# Altium schematic symbol library TI Interface ESD EMI Protection.SchLib: 82 symbols (part 2 of 3)
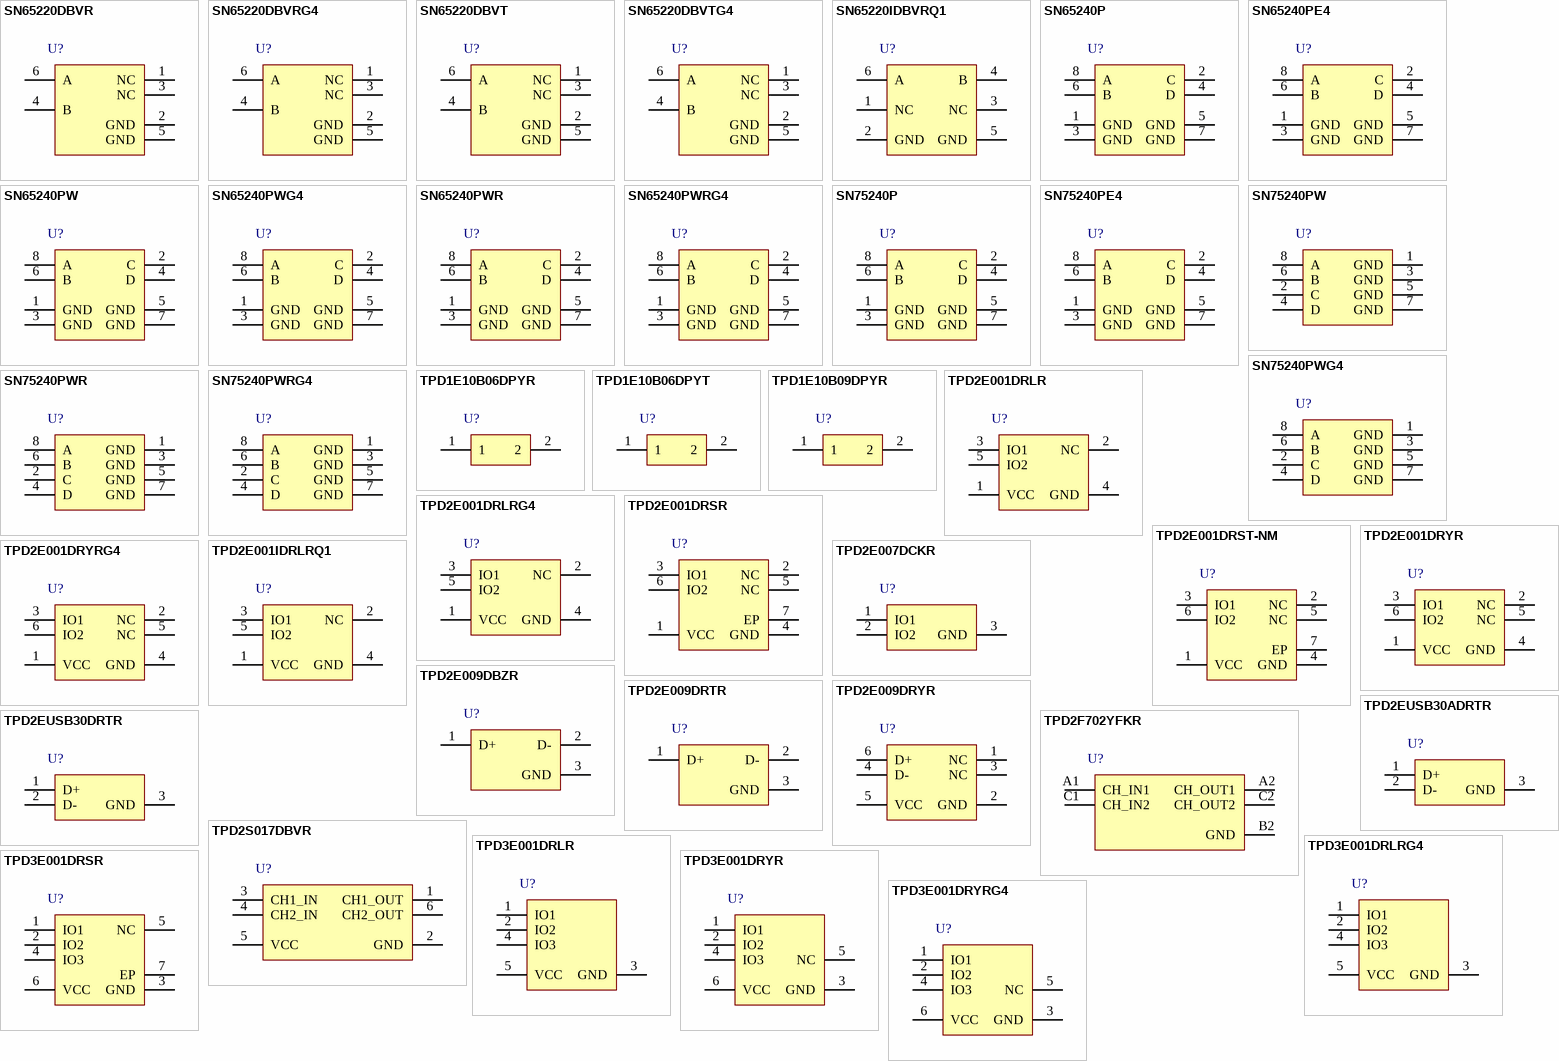
[diagram p3: symbols SN65220DBVR to TPD3E001DRYRG4]

## TPD2F702YFKR
designator U?
EMI Filter for Audio Headphone, 2 Channels, -40 to +85 degC, 5-pin DSBGA (YFK), Green (RoHS & no Sb/Br); Manufacturer: Texas Instruments; PartNumber: TPD2F702YFKR; Breakdown Voltage(Min)(V): 14; Ctotal(Typ)(pF): 5, 030; IEC 61000-4-2 Air-Gap(Typ)(+/- kV): 30; IEC 61000-4-2 Contact(Typ)(+/- kV): 20; SubFamily: EMI Solution; DatasheetVersion: SLLS986A; PackageVersion: revA, Jul-2009; PackageReference: YFK5; PackageDescription: 5-Ball Die-Size Ball Grid Array, 1.31 x 0.91 mm Body, 0.4 mm Pitch, Pb-Free; Supplier 1: Digi-Key; Supplier Part Number 1: 296-25865-2-ND; Supplier 2: Digi-Key; Supplier Part Number 2: 296-25865-1-ND; Supplier 3: Digi-Key; Supplier Part Number 3: 296-25865-6-ND; Supplier 4: Farnell; Supplier Part Number 4: 1815757; Supplier 5: Farnell; Supplier Part Number 5: 1815757RL; Supplier 6: Newark; Supplier Part Number 6: 68R2143; Supplier 7: Mouser; Supplier Part Number 7: 595-TPD2F702YFKR; Eco-Plan: Green (RoHS & no Sb/Br); Mounting Technology: Surface Mount; ComponentLink1Description: Datasheet; ComponentLink1URL: http://www.ti.com/general/docs/lit/getliterature.tsp?genericPartNumber=TPD2F702&fileType=pdf; ComponentLink2Description: URL Link1; ComponentLink2URL: SamplesURL:http://www.ti.com/product/tpd2f702#samples
footprint YFK5 (BGA, 5-Leads, Body 1.31x0.91mm, Pitch 0.4mm)
pins: A1 CH_IN1 "Ch 1 Input, ESD Level 1", A2 CH_OUT1 "Ch 1 Output, ESD Level 4", B2 GND (power) "Ground", C1 CH_IN2 "Ch 2 Input, ESD Level 1", C2 CH_OUT2 "Ch 2 Output, ESD Level 4"

## TPD2S017DBVR
designator U?
Ultra-Low Clamp Voltage ESD Solution with Series-Resistor Isolation, 2 Channels, -40 to 85 degC, 6-pin SOT-23 (DBV), Green (RoHS & no Sb/Br); Manufacturer: Texas Instruments; PartNumber: TPD2S017DBVR; Breakdown Voltage(Min)(V): 11; Differential Capacitance(pF): 0.02; IO Capacitance(Typ)(pF): 1; IO Leakage Current(nA): 10; USB Full Speed: TRUE; DatasheetVersion: SLLS949; PackageVersion: revK, Mar-2006; PackageReference: DBV6; PackageDescription: 6-Pin Plastic Small-Outline Package, 2.9 x 1.6 mm Body, 0.95 mm Pitch, 2.8 mm Lead Span; Supplier 1: Digi-Key; Supplier Part Number 1: 296-25216-2-ND; Supplier 2: Digi-Key; Supplier Part Number 2: 296-25216-1-ND; Supplier 3: Digi-Key; Supplier Part Number 3: 296-25216-6-ND; Supplier 4: Newark; Supplier Part Number 4: 50R8094; Supplier 5: Mouser; Supplier Part Number 5: 595-TPD2S017DBVR; Eco-Plan: Green (RoHS & no Sb/Br); IEC 61000-4-2 Contact(+/- kV): 11; SubFamily: ESD Solution; USB High Speed: TRUE; Mounting Technology: Surface Mount; Code_JEDEC: MO-178-AB*; ComponentLink1Description: Datasheet; ComponentLink1URL: http://www.ti.com/general/docs/lit/getliterature.tsp?genericPartNumber=TPD2S017&fileType=pdf; ComponentLink2Description: URL Link1; ComponentLink2URL: SamplesURL:http://www.ti.com/product/tpd2s017#samples
footprint DBV6_N (SOT23, 6-Leads, Body 2.9x1.6mm, Pitch 0.95mm, Lead Span 2.8mm, IPC Medium Density)
footprint DBV6_L (SOT23, 6-Leads, Body 2.9x1.6mm, Pitch 0.95mm, Lead Span 2.8mm, IPC High Density)
footprint DBV6_M (SOT23, 6-Leads, Body 2.9x1.6mm, Pitch 0.95mm, Lead Span 2.8mm, IPC Low Density)
pins: 1 CH1_OUT "High-speed ESD clamp output", 2 GND (power) "Ground", 3 CH1_IN "High-speed ESD clamp input", 4 CH2_IN "High-speed ESD clamp input", 5 VCC (power) "Optional power", 6 CH2_OUT "High-speed ESD clamp output"

## TPD3E001DRLR
designator U?
Low-Capacitance + / - 15 kV ESD-Protection Array for High-Speed Data Interfaces, 3 Channels, -40 to +85 degC, 5-pin SOT (DRL), Green (RoHS & no Sb/Br); Manufacturer: Texas Instruments; PartNumber: TPD3E001DRLR; Breakdown Voltage(Min)(V): 11; IEC 61000-4-2 Air-Gap(+/- kV): 15; IEC 61000-4-2 Contact(+/- kV): 8; IO Capacitance(Typ)(pF): 1.5; IO Leakage Current(nA): 1; SubFamily: ESD Solution; USB High Speed: TRUE; DatasheetVersion: SLLS683D; PackageVersion: revD, Aug-2007; PackageReference: DRL5; PackageDescription: 5-Pin Plastic Small Outline, Flat Lead 0.5 mm Pitch; Supplier 1: Digi-Key; Supplier Part Number 1: 296-21885-2-ND; Supplier 2: Digi-Key; Supplier Part Number 2: 296-21885-1-ND; Supplier 3: Digi-Key; Supplier Part Number 3: 296-21885-6-ND; Supplier 4: Farnell; Supplier Part Number 4: 1603422; Supplier 5: Farnell; Supplier Part Number 5: 1603422RL; Supplier 6: Newark; Supplier Part Number 6: 41M5842; Supplier 7: Mouser; Supplier Part Number 7: 595-TPD3E001DRLR; Eco-Plan: Green (RoHS & no Sb/Br); Mounting Technology: Surface Mount; ComponentLink1Description: Datasheet; ComponentLink1URL: http://www.ti.com/general/docs/lit/getliterature.tsp?genericPartNumber=TPD3E001&fileType=pdf; ComponentLink2Description: URL Link1; ComponentLink2URL: SamplesURL:http://www.ti.com/product/tpd3e001#samples
footprint DRL5_V (SOTFL, 5-Flat Leads, Body 1.2x1.6x0.6mm, Pitch 0.5mm, TI Recommended)
footprint DRL5_N (SOTFL, 5-Flat Leads, Body 1.2x1.6x0.6mm, Pitch 0.5mm, IPC Medium Density)
footprint DRL5_L (SOTFL, 5-Flat Leads, Body 1.2x1.6x0.6mm, Pitch 0.5mm, IPC High Density)
footprint DRL5_M (SOTFL, 5-Flat Leads, Body 1.2x1.6x0.6mm, Pitch 0.5mm, IPC Low Density)
pins: 1 IO1 "ESD-protected channel", 2 IO2 "ESD-protected channel", 3 GND (power) "Ground", 4 IO3 "ESD-protected channel", 5 VCC (power) "Power-supply input. Bypass VCC to GND with a 0.1-uF ceramic Capacitor."

## TPD3E001DRLRG4
designator U?
Low-Capacitance + / - 15 kV ESD-Protection Array for High-Speed Data Interfaces, 3 Channels, -40 to +85 degC, 5-pin SOT (DRL), Green (RoHS & no Sb/Br); Manufacturer: Texas Instruments; PartNumber: TPD3E001DRLRG4; Breakdown Voltage(Min)(V): 11; IEC 61000-4-2 Air-Gap(+/- kV): 15; IEC 61000-4-2 Contact(+/- kV): 8; IO Capacitance(Typ)(pF): 1.5; IO Leakage Current(nA): 1; SubFamily: ESD Solution; USB High Speed: TRUE; DatasheetVersion: SLLS683D; PackageVersion: revD, Aug-2007; PackageReference: DRL5; PackageDescription: 5-Pin Plastic Small Outline, Flat Lead 0.5 mm Pitch; Supplier 1: Digi-Key; Supplier Part Number 1: TPD3E001DRLRG4-ND; Supplier 2: Newark; Supplier Part Number 2: 46M1086; Supplier 3: Mouser; Supplier Part Number 3: 595-TPD3E001DRLRG4; Eco-Plan: Green (RoHS & no Sb/Br); Mounting Technology: Surface Mount; ComponentLink1Description: Datasheet; ComponentLink1URL: http://www.ti.com/general/docs/lit/getliterature.tsp?genericPartNumber=TPD3E001&fileType=pdf; ComponentLink2Description: URL Link1; ComponentLink2URL: SamplesURL:http://www.ti.com/product/tpd3e001#samples
footprint DRL5_V (SOTFL, 5-Flat Leads, Body 1.2x1.6x0.6mm, Pitch 0.5mm, TI Recommended)
footprint DRL5_N (SOTFL, 5-Flat Leads, Body 1.2x1.6x0.6mm, Pitch 0.5mm, IPC Medium Density)
footprint DRL5_L (SOTFL, 5-Flat Leads, Body 1.2x1.6x0.6mm, Pitch 0.5mm, IPC High Density)
footprint DRL5_M (SOTFL, 5-Flat Leads, Body 1.2x1.6x0.6mm, Pitch 0.5mm, IPC Low Density)
pins: 1 IO1 "ESD-protected channel", 2 IO2 "ESD-protected channel", 3 GND (power) "Ground", 4 IO3 "ESD-protected channel", 5 VCC (power) "Power-supply input. Bypass VCC to GND with a 0.1-uF ceramic Capacitor."

## TPD3E001DRSR
designator U?
Low-Capacitance + / - 15 kV ESD-Protection Array for High-Speed Data Interfaces, 3 Channels, -40 to +85 degC, 6-pin SON (DRS), Green (RoHS & no Sb/Br); Manufacturer: Texas Instruments; PartNumber: TPD3E001DRSR; Breakdown Voltage(Min)(V): 11; IEC 61000-4-2 Air-Gap(+/- kV): 15; IEC 61000-4-2 Contact(+/- kV): 8; IO Capacitance(Typ)(pF): 1.5; IO Leakage Current(nA): 1; SubFamily: ESD Solution; USB High Speed: TRUE; DatasheetVersion: SLLS683D; PackageVersion: revF, Jul-2011; PackageReference: DRS6-1900X1200TP; PackageDescription: 6-Pin Plastic Small Outline No-Lead, 3 x 3 x 0.8 mm Body, 0.95 mm Pitch; Supplier 1: Digi-Key; Supplier Part Number 1: 296-22851-2-ND; Supplier 2: Digi-Key; Supplier Part Number 2: 296-22851-1-ND; Supplier 3: Digi-Key; Supplier Part Number 3: 296-22851-6-ND; Supplier 4: Newark; Supplier Part Number 4: 54M7404; Supplier 5: Mouser; Supplier Part Number 5: 595-TPD3E001DRSR; Eco-Plan: Green (RoHS & no Sb/Br); Mounting Technology: Surface Mount; ComponentLink1Description: Datasheet; ComponentLink1URL: http://www.ti.com/general/docs/lit/getliterature.tsp?genericPartNumber=TPD3E001&fileType=pdf; ComponentLink2Description: URL Link1; ComponentLink2URL: SamplesURL:http://www.ti.com/product/tpd3e001#samples
footprint DRS6-1900X1200TP (SON, 6-Leads, Body 3x3mm, Pitch 0.95mm, Thermal Pad 2x1.3mm, TI Recommended)
pins: 1 IO1 "ESD-protected channel", 2 IO2 "ESD-protected channel", 3 GND (power) "Ground", 4 IO3 "ESD-protected channel", 5 NC "No connection. Not internally connected.", 6 VCC (power) "Power-supply input. Bypass VCC to GND with a 0.1-uF ceramic capacitor.", 7 EP (power) "Exposed pad. Connect to GND."

## TPD3E001DRYR
designator U?
Low-Capacitance + / - 15 kV ESD-Protection Array for High-Speed Data Interfaces, 3 Channels, -40 to +85 degC, 6-pin SON (DRY), Green (RoHS & no Sb/Br); Manufacturer: Texas Instruments; PartNumber: TPD3E001DRYR; Breakdown Voltage(Min)(V): 11; IEC 61000-4-2 Air-Gap(+/- kV): 15; IEC 61000-4-2 Contact(+/- kV): 8; IO Capacitance(Typ)(pF): 1.5; IO Leakage Current(nA): 1; SubFamily: ESD Solution; USB High Speed: TRUE; DatasheetVersion: SLLS683D; PackageVersion: revF, Dec-2011; PackageReference: DRY6; PackageDescription: 6-Pin Plastic Small Outline No-Lead, 1 x 1.45 x 0.6 mm Body, 0.5 mm Pitch; Supplier 1: Digi-Key; Supplier Part Number 1: 296-21886-2-ND; Supplier 2: Digi-Key; Supplier Part Number 2: 296-21886-1-ND; Supplier 3: Digi-Key; Supplier Part Number 3: 296-21886-6-ND; Supplier 4: Newark; Supplier Part Number 4: 41M5843; Supplier 5: Mouser; Supplier Part Number 5: 595-TPD3E001DRYR; Eco-Plan: Green (RoHS & no Sb/Br); Mounting Technology: Surface Mount; ComponentLink1Description: Datasheet; ComponentLink1URL: http://www.ti.com/general/docs/lit/getliterature.tsp?genericPartNumber=TPD3E001&fileType=pdf; ComponentLink2Description: URL Link1; ComponentLink2URL: SamplesURL:http://www.ti.com/product/tpd3e001#samples
footprint DRY6 (PSON, 6-Leads, Body 1x1.45mm, Pitch 0.5mm, TI Recommended)
pins: 1 IO1 "ESD-protected channel", 2 IO2 "ESD-protected channel", 3 GND (power) "Ground", 4 IO3 "ESD-protected channel", 5 NC "No connection. Not internally connected.", 6 VCC (power) "Power-supply input. Bypass VCC to GND with a 0.1-uF ceramic capacitor."

## TPD3E001DRYRG4
designator U?
Low-Capacitance + / - 15 kV ESD-Protection Array for High-Speed Data Interfaces, 3 Channels, -40 to +85 degC, 6-pin SON (DRY), Green (RoHS & no Sb/Br); Manufacturer: Texas Instruments; PartNumber: TPD3E001DRYRG4; Breakdown Voltage(Min)(V): 11; IEC 61000-4-2 Air-Gap(+/- kV): 15; IEC 61000-4-2 Contact(+/- kV): 8; IO Capacitance(Typ)(pF): 1.5; IO Leakage Current(nA): 1; SubFamily: ESD Solution; USB High Speed: TRUE; DatasheetVersion: SLLS683D; PackageVersion: revF, Dec-2011; PackageReference: DRY6; PackageDescription: 6-Pin Plastic Small Outline No-Lead, 1 x 1.45 x 0.6 mm Body, 0.5 mm Pitch; Supplier 1: Digi-Key; Supplier Part Number 1: TPD3E001DRYRG4-ND; Supplier 2: Newark; Supplier Part Number 2: 53M3999; Supplier 3: Mouser; Supplier Part Number 3: 595-TPD3E001DRYRG4; Eco-Plan: Green (RoHS & no Sb/Br); Mounting Technology: Surface Mount; ComponentLink1Description: Datasheet; ComponentLink1URL: http://www.ti.com/general/docs/lit/getliterature.tsp?genericPartNumber=TPD3E001&fileType=pdf; ComponentLink2Description: URL Link1; ComponentLink2URL: SamplesURL:http://www.ti.com/product/tpd3e001#samples
footprint DRY6 (PSON, 6-Leads, Body 1x1.45mm, Pitch 0.5mm, TI Recommended)
pins: 1 IO1 "ESD-protected channel", 2 IO2 "ESD-protected channel", 3 GND (power) "Ground", 4 IO3 "ESD-protected channel", 5 NC "No connection. Not internally connected.", 6 VCC (power) "Power-supply input. Bypass VCC to GND with a 0.1-uF ceramic capacitor."

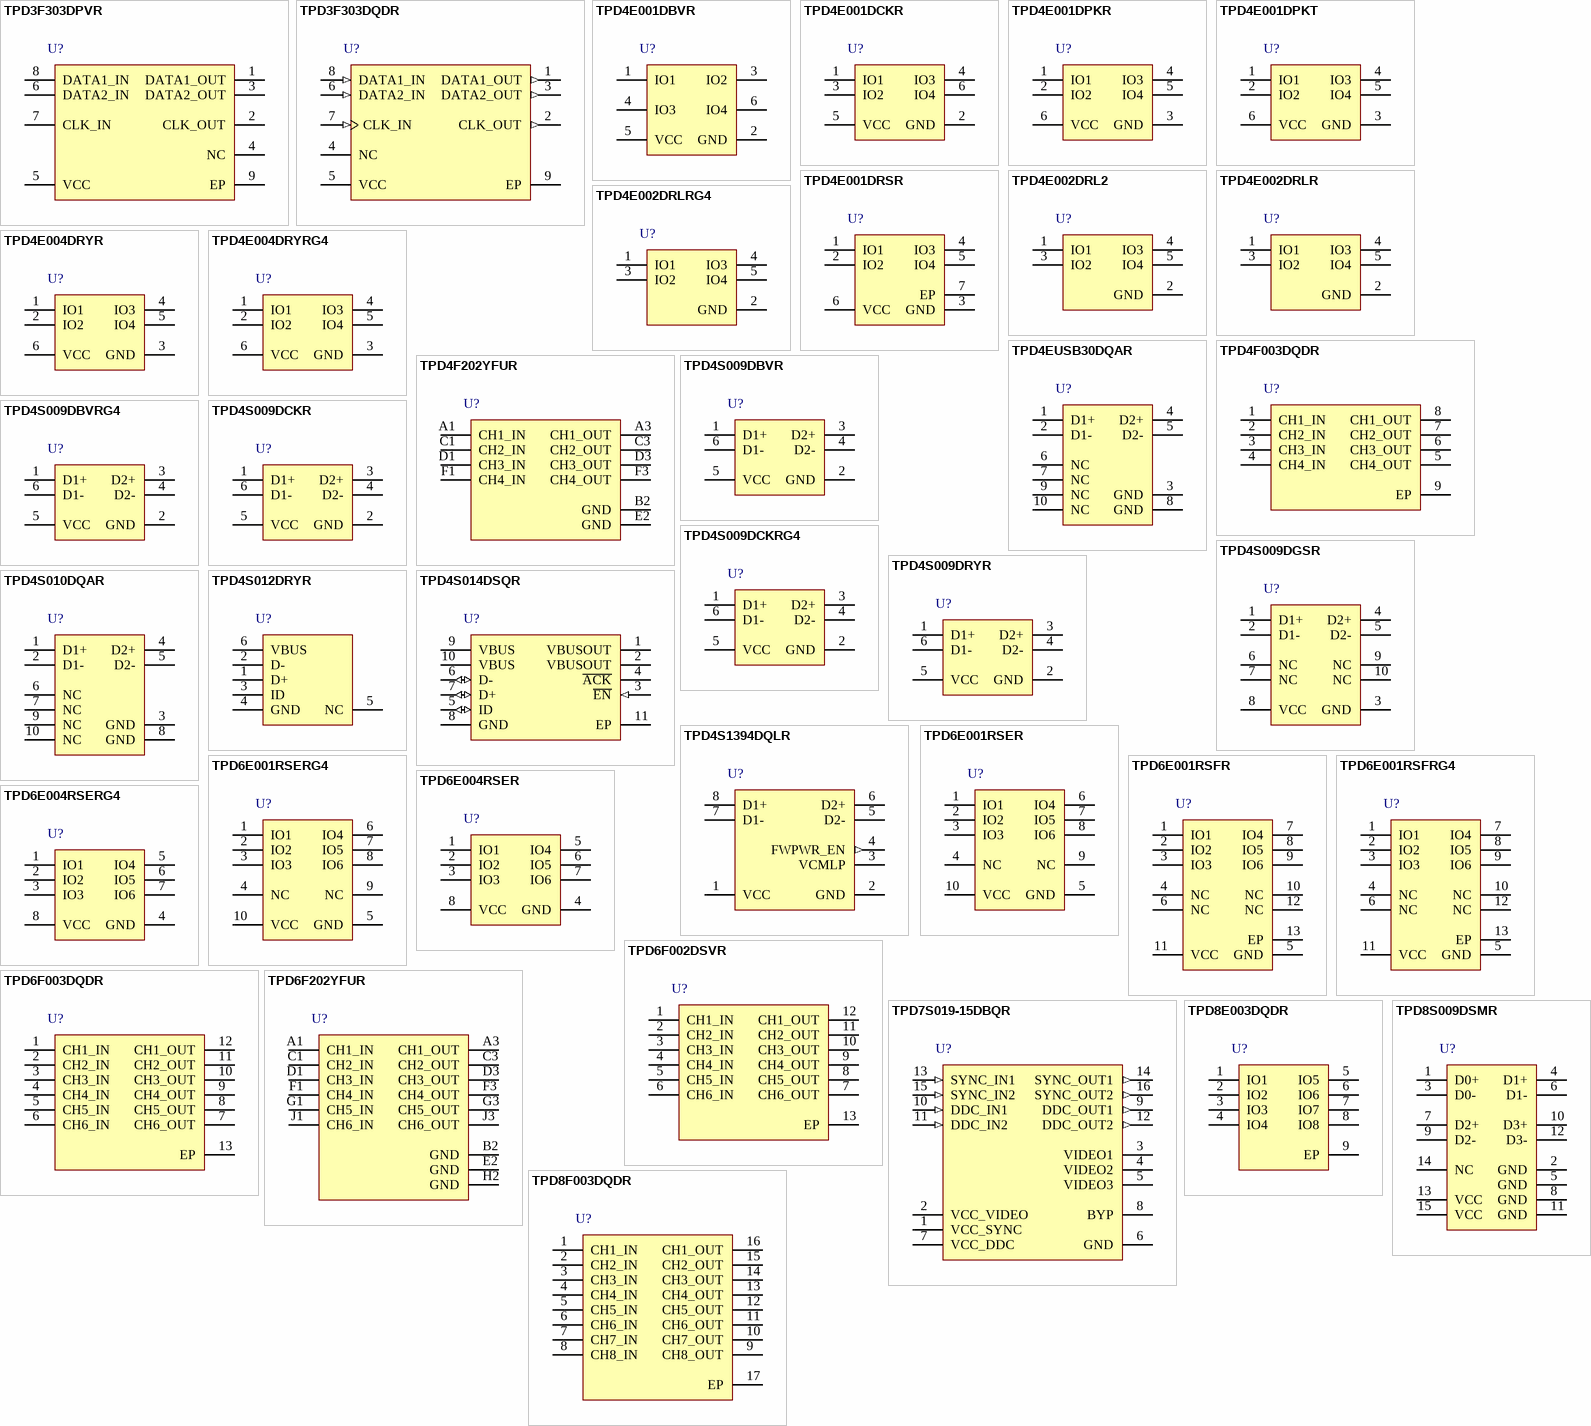
[diagram p1: symbols TPD3F303DPVR to TPD8S009DSMR]

## TPD3F303DPVR
designator U?
EMI Filter with Integrated VCC Clamp for SIM Card Interface, 3 Channels, -40 to +85 degC, 8-pin USON (DPV), Green (RoHS & no Sb/Br); Manufacturer: Texas Instruments; PartNumber: TPD3F303DPVR; Ctotal(Typ)(pF): 20; IEC 61000-4-2 Air-Gap(Typ)(+/- kV): 15; SubFamily: EMI Solution; DatasheetVersion: SLVSAM5; PackageVersion: revA, Jun-2010; PackageReference: DPV8-1700X400TP; PackageDescription: 8-Pin Plastic Small Outline No-Lead, 1.6 x 2.1 x 0.65 mm Body, 0.5 mm Pitch, Exposed Pad; Supplier 1: Digi-Key; Supplier Part Number 1: 296-28299-2-ND; Supplier 2: Digi-Key; Supplier Part Number 2: 296-28299-1-ND; Supplier 3: Digi-Key; Supplier Part Number 3: 296-28299-6-ND; Supplier 4: Farnell; Supplier Part Number 4: 1882270; Supplier 5: Newark; Supplier Part Number 5: 32T3294; Supplier 6: Mouser; Supplier Part Number 6: 595-TPD3F303DPVR; Eco-Plan: Green (RoHS & no Sb/Br); IEC 61000-4-2 Contact(Typ)(+/- kV): 15; Mounting Technology: Surface Mount; ComponentLink1Description: Datasheet; ComponentLink1URL: http://www.ti.com/general/docs/lit/getliterature.tsp?genericPartNumber=TPD3F303&fileType=pdf; ComponentLink2Description: URL Link1; ComponentLink2URL: SamplesURL:http://www.ti.com/product/tpd3f303#samples
footprint DPV8-1700X400TP (SON, 8-Leads, Body 1.6x2.1mm, Pitch 0.5mm, Thermal Pad 1.7x0.4mm)
pins: 1 DATA1_OUT "Data and Rest signals Output pin. The DATA1 and DATA2 are symmetric circuits.They can be used interchangeably for either DATA or RESET pins based off board layout scheme.", 2 CLK_OUT "Clock Output signal.", 3 DATA2_OUT "Data and Rest signals Output pin. The DATA1 and DATA2 are symmetric circuits.They can be used interchangeably for either DATA or RESET pins based off board layout scheme.", 4 NC "Not connected to any internal circuit. Leave this pin floating.", 5 VCC (power) "ESD Clamp circuit for the VCC pin.", 6 DATA2_IN "Data and Rest signals Input pin. The DATA1 and DATA2 are symmetric circuits.They can be used interchangeably for either DATA or RESET pins based off board layout scheme.", 7 CLK_IN "Clock Input signal.", 8 DATA1_IN "Data and Rest signals Input pin. The DATA1 and DATA2 are symmetric circuits.They can be used interchangeably for either DATA or RESET pins based off board layout scheme.", 9 EP (power) "Ground connection for the EMI filter. It is very important to connect the device GND to the printed circuit board ground plane through Vias directly under the package."

## TPD3F303DQDR
designator U?
EMI Filter with Integrated VCC Clamp for SIM Card Interface, 3 Channels, -40 to +85 degC, 8-pin WSON (DQD), Green (RoHS & no Sb/Br); Manufacturer: Texas Instruments; PartNumber: TPD3F303DQDR; Ctotal(Typ)(pF): 20; IEC 61000-4-2 Air-Gap(Typ)(+/- kV): 15; SubFamily: EMI Solution; DatasheetVersion: SLVSAM5; PackageVersion: revC, Dec-2011; PackageReference: DQD8-1200X400TP; PackageDescription: 8-Pin Plastic Small Outline No-Lead, 1.35 x 1.7 x 0.8 mm Body, 0.4 mm Pitch, Exposed Pad; Supplier 1: Digi-Key; Supplier Part Number 1: 296-28300-2-ND; Supplier 2: Digi-Key; Supplier Part Number 2: 296-28300-1-ND; Supplier 3: Digi-Key; Supplier Part Number 3: 296-28300-6-ND; Supplier 4: Farnell; Supplier Part Number 4: 1882271; Supplier 5: Farnell; Supplier Part Number 5: 1882271RL; Supplier 6: Newark; Supplier Part Number 6: 32T3295; Supplier 7: Mouser; Supplier Part Number 7: 595-TPD3F303DQDR; Eco-Plan: Green (RoHS & no Sb/Br); IEC 61000-4-2 Contact(Typ)(+/- kV): 15; Mounting Technology: Surface Mount; ComponentLink1Description: Datasheet; ComponentLink1URL: http://www.ti.com/general/docs/lit/getliterature.tsp?genericPartNumber=TPD3F303&fileType=pdf; ComponentLink2Description: URL Link1; ComponentLink2URL: SamplesURL:http://www.ti.com/product/tpd3f303#samples
footprint DQD8-1200X400TP (SON, 8-Leads, Body 1.35x1.7mm, Pitch 0.4mm, Thermal Pad 1.2x0.4mm, TI Recommended)
pins: 1 DATA1_OUT (out) "Data and Rest signals Output pin. The DATA1 and DATA2 are symmetric circuits.They can be used interchangeably for either DATA or RESET pins based off board layout scheme.", 2 CLK_OUT (out) "Clock Output signal.", 3 DATA2_OUT (out) "Data and Rest signals Output pin. The DATA1 and DATA2 are symmetric circuits.They can be used interchangeably for either DATA or RESET pins based off board layout scheme.", 4 NC "Not connected to any internal circuit. Leave this pin floating.", 5 VCC (power) "ESD Clamp circuit for theVCC pin.", 6 DATA2_IN (in) "Data and Rest signals Input pin. The DATA1 and DATA2 are symmetric circuits.They can be used interchangeably for either DATA or RESET pins based off board layout scheme.", 7 CLK_IN (in) "Clock Input signals.", 8 DATA1_IN (in) "Data and Rest signals Input pins. The DATA1 and DATA2 are symmetric circuits.They can be used interchangeably for either DATA or RESET pins based off board layout scheme.", 9 EP (power) "Ground connection for the EMI filter. It is very important to connect the device GND to the printed circuit board ground plane through Vias directly under the package."

## TPD4E001DBVR
designator U?
Low-Capacitance + / - 15-kV ESD Protection Array for High-Speed Data Interfaces, 4 Channels, -40 to +85 degC, 6-pin SOT-23 (DBV), Green (RoHS & no Sb/Br); Manufacturer: Texas Instruments; PartNumber: TPD4E001DBVR; 1394 / Firewire: TRUE; Breakdown Voltage(Min)(V): 11; IEC 61000-4-2 Air-Gap(+/- kV): 15; IEC 61000-4-2 Contact(+/- kV): 8; IO Capacitance(Typ)(pF): 1.5; SubFamily: ESD Solution; DatasheetVersion: SLLS682G; PackageVersion: revK, Mar-2006; PackageReference: DBV6; PackageDescription: 6-Pin Plastic Small-Outline Package, 2.9 x 1.6 mm Body, 0.95 mm Pitch, 2.8 mm Lead Span; Supplier 1: Digi-Key; Supplier Part Number 1: 296-28203-2-ND; Supplier 2: Digi-Key; Supplier Part Number 2: 296-28203-1-ND; Supplier 3: Digi-Key; Supplier Part Number 3: 296-28203-6-ND; Supplier 4: Newark; Supplier Part Number 4: 27T6836; Supplier 5: Mouser; Supplier Part Number 5: 595-TPD4E001DBVR; Eco-Plan: Green (RoHS & no Sb/Br); IO Leakage Current(nA): 1.5; Serial ATA / eSATA: TRUE; USB High Speed: TRUE; Mounting Technology: Surface Mount; Code_JEDEC: MO-178-AB*; ComponentLink1Description: Datasheet; ComponentLink1URL: http://www.ti.com/general/docs/lit/getliterature.tsp?genericPartNumber=TPD4E001&fileType=pdf; ComponentLink2Description: URL Link1; ComponentLink2URL: SamplesURL:http://www.ti.com/product/tpd4e001#samples
footprint DBV6_N (SOT23, 6-Leads, Body 2.9x1.6mm, Pitch 0.95mm, Lead Span 2.8mm, IPC Medium Density)
footprint DBV6_L (SOT23, 6-Leads, Body 2.9x1.6mm, Pitch 0.95mm, Lead Span 2.8mm, IPC High Density)
footprint DBV6_M (SOT23, 6-Leads, Body 2.9x1.6mm, Pitch 0.95mm, Lead Span 2.8mm, IPC Low Density)
pins: 1 IO1 "ESD-protected channel", 2 GND (power) "Ground", 3 IO2 "ESD-protected channel", 4 IO3 "ESD-protected channel", 5 VCC (power) "Power-supply input. Bypass VCC to GND with a 0.1-uF ceramic capacitor.", 6 IO4 "ESD-protected channel"

## TPD4E001DCKR
designator U?
Low-Capacitance + / - 15-kV ESD Protection Array for High-Speed Data Interfaces, 4 Channels, -40 to +85 degC, 6-pin SOT70 (DCK), Green (RoHS & no Sb/Br); Manufacturer: Texas Instruments; PartNumber: TPD4E001DCKR; 1394 / Firewire: TRUE; Breakdown Voltage(Min)(V): 11; IEC 61000-4-2 Air-Gap(+/- kV): 15; IEC 61000-4-2 Contact(+/- kV): 8; IO Capacitance(Typ)(pF): 1.5; SubFamily: ESD Solution; DatasheetVersion: SLLS682G; PackageVersion: revG, Jan-2007; PackageReference: DCK6; PackageDescription: 6-Pin Plastic Small-Outline Package, 2 x 1.3 mm Body, 0.65 mm Pitch, 2.1 mm Lead Span; Supplier 1: Digi-Key; Supplier Part Number 1: 296-28779-2-ND; Supplier 2: Digi-Key; Supplier Part Number 2: 296-28779-1-ND; Supplier 3: Digi-Key; Supplier Part Number 3: 296-28779-6-ND; Supplier 4: Newark; Supplier Part Number 4: 48T4664; Supplier 5: Mouser; Supplier Part Number 5: 595-TPD4E001DCKR; Eco-Plan: Green (RoHS & no Sb/Br); IO Leakage Current(nA): 1.5; Serial ATA / eSATA: TRUE; USB High Speed: TRUE; Mounting Technology: Surface Mount; Code_JEDEC: MO-203-AB; ComponentLink1Description: Datasheet; ComponentLink1URL: http://www.ti.com/general/docs/lit/getliterature.tsp?genericPartNumber=TPD4E001&fileType=pdf; ComponentLink2Description: URL Link1; ComponentLink2URL: SamplesURL:http://www.ti.com/product/tpd4e001#samples
footprint DCK6_N (SOT23, 6-Leads, Body 2x1.3mm, Pitch 0.65mm, Lead Span 2.1mm, IPC Medium Density)
footprint DCK6_L (SOT23, 6-Leads, Body 2x1.3mm, Pitch 0.65mm, Lead Span 2.1mm, IPC High Density)
footprint DCK6_M (SOT23, 6-Leads, Body 2x1.3mm, Pitch 0.65mm, Lead Span 2.1mm, IPC Low Density)
pins: 1 IO1 "ESD-protected channel", 2 GND (power) "Ground", 3 IO2 "ESD-protected channel", 4 IO3 "ESD-protected channel", 5 VCC (power) "Power-supply input. Bypass VCC to GND with a 0.1-uF ceramic capacitor.", 6 IO4 "ESD-protected channel"

## TPD4E001DPKR
designator U?
Low-Capacitance + / - 15-kV ESD Protection Array for High-Speed Data Interfaces, 4 Channels, -40 to +85 degC, 6-pin USON (DPK), Green (RoHS & no Sb/Br); Manufacturer: Texas Instruments; PartNumber: TPD4E001DPKR; 1394 / Firewire: TRUE; Breakdown Voltage(Min)(V): 11; IEC 61000-4-2 Air-Gap(+/- kV): 15; IEC 61000-4-2 Contact(+/- kV): 8; IO Capacitance(Typ)(pF): 1.5; SubFamily: ESD Solution; DatasheetVersion: SLLS682G; PackageVersion: revB, Dec-2011; PackageReference: DPK6; PackageDescription: 6-Pin Plastic Small Outline No-Lead, 1.6 x 1.6 x 0.6 mm Body, 0.5 mm Pitch; Supplier 1: Digi-Key; Supplier Part Number 1: 296-30280-2-ND; Supplier 2: Digi-Key; Supplier Part Number 2: 296-30280-1-ND; Supplier 3: Digi-Key; Supplier Part Number 3: 296-30280-6-ND; Supplier 4: Newark; Supplier Part Number 4: 82T4224; Supplier 5: Mouser; Supplier Part Number 5: 595-TPD4E001DPKR; Eco-Plan: Green (RoHS & no Sb/Br); IO Leakage Current(nA): 1.5; Serial ATA / eSATA: TRUE; USB High Speed: TRUE; Mounting Technology: Surface Mount; ComponentLink1Description: Datasheet; ComponentLink1URL: http://www.ti.com/general/docs/lit/getliterature.tsp?genericPartNumber=TPD4E001&fileType=pdf; ComponentLink2Description: URL Link1; ComponentLink2URL: SamplesURL:http://www.ti.com/product/tpd4e001#samples
footprint DPK6 (SON, 6-Leads, Body 1.6x1.6mm, Pitch 0.5mm, TI Recommended)
pins: 1 IO1 "ESD-protected channel", 2 IO2 "ESD-protected channel", 3 GND (power) "Ground", 4 IO3 "ESD-protected channel", 5 IO4 "ESD-protected channel", 6 VCC (power) "Power-supply input. Bypass VCC to GND with a 0.1-uF ceramic capacitor."

## TPD4E001DPKT
designator U?
Low-Capacitance + / - 15-kV ESD Protection Array for High-Speed Data Interfaces, 4 Channels, -40 to +85 degC, 6-pin USON (DPK), Green (RoHS & no Sb/Br); Manufacturer: Texas Instruments; PartNumber: TPD4E001DPKT; 1394 / Firewire: TRUE; Breakdown Voltage(Min)(V): 11; IEC 61000-4-2 Air-Gap(+/- kV): 15; IEC 61000-4-2 Contact(+/- kV): 8; IO Capacitance(Typ)(pF): 1.5; SubFamily: ESD Solution; DatasheetVersion: SLLS682G; PackageVersion: revB, Dec-2011; PackageReference: DPK6; PackageDescription: 6-Pin Plastic Small Outline No-Lead, 1.6 x 1.6 x 0.6 mm Body, 0.5 mm Pitch; Supplier 1: Digi-Key; Supplier Part Number 1: 296-32461-2-ND; Supplier 2: Digi-Key; Supplier Part Number 2: 296-32461-1-ND; Supplier 3: Digi-Key; Supplier Part Number 3: 296-32461-6-ND; Supplier 4: Newark; Supplier Part Number 4: 82T4225; Supplier 5: Mouser; Supplier Part Number 5: 595-TPD4E001DPKT; Eco-Plan: Green (RoHS & no Sb/Br); IO Leakage Current(nA): 1.5; Serial ATA / eSATA: TRUE; USB High Speed: TRUE; Mounting Technology: Surface Mount; ComponentLink1Description: Datasheet; ComponentLink1URL: http://www.ti.com/general/docs/lit/getliterature.tsp?genericPartNumber=TPD4E001&fileType=pdf; ComponentLink2Description: URL Link1; ComponentLink2URL: SamplesURL:http://www.ti.com/product/tpd4e001#samples
footprint DPK6 (SON, 6-Leads, Body 1.6x1.6mm, Pitch 0.5mm, TI Recommended)
pins: 1 IO1 "ESD-protected channel", 2 IO2 "ESD-protected channel", 3 GND (power) "Ground", 4 IO3 "ESD-protected channel", 5 IO4 "ESD-protected channel", 6 VCC (power) "Power-supply input. Bypass VCC to GND with a 0.1-uF ceramic capacitor."

## TPD4E001DRSR
designator U?
Low-Capacitance + / - 15-kV ESD Protection Array for High-Speed Data Interfaces, 4 Channels, -40 to +85 degC, 6-pin SON (DRS), Green (RoHS & no Sb/Br); Manufacturer: Texas Instruments; PartNumber: TPD4E001DRSR; 1394 / Firewire: TRUE; Breakdown Voltage(Min)(V): 11; IEC 61000-4-2 Air-Gap(+/- kV): 15; IEC 61000-4-2 Contact(+/- kV): 8; IO Capacitance(Typ)(pF): 1.5; SubFamily: ESD Solution; DatasheetVersion: SLLS682G; PackageVersion: revF, Jul-2011; PackageReference: DRS6-1900X1200TP; PackageDescription: 6-Pin Plastic Small Outline No-Lead, 3 x 3 x 0.8 mm Body, 0.95 mm Pitch; Supplier 1: Digi-Key; Supplier Part Number 1: 296-22852-2-ND; Supplier 2: Digi-Key; Supplier Part Number 2: 296-22852-1-ND; Supplier 3: Digi-Key; Supplier Part Number 3: 296-22852-6-ND; Supplier 4: Newark; Supplier Part Number 4: 54M7405; Supplier 5: Mouser; Supplier Part Number 5: 595-TPD4E001DRSR; Eco-Plan: Green (RoHS & no Sb/Br); IO Leakage Current(nA): 1.5; Serial ATA / eSATA: TRUE; USB High Speed: TRUE; Mounting Technology: Surface Mount; ComponentLink1Description: Datasheet; ComponentLink1URL: http://www.ti.com/general/docs/lit/getliterature.tsp?genericPartNumber=TPD4E001&fileType=pdf; ComponentLink2Description: URL Link1; ComponentLink2URL: SamplesURL:http://www.ti.com/product/tpd4e001#samples
footprint DRS6-1900X1200TP (SON, 6-Leads, Body 3x3mm, Pitch 0.95mm, Thermal Pad 2x1.3mm, TI Recommended)
pins: 1 IO1 "ESD-protected channel", 2 IO2 "ESD-protected channel", 3 GND (power) "Ground", 4 IO3 "ESD-protected channel", 5 IO4 "ESD-protected channel", 6 VCC (power) "Power-supply input. Bypass VCC to GND with a 0.1-uF ceramic capacitor.", 7 EP (power) "Exposed thermal pad. Connect to GND or leave floating."

## TPD4E002DRL2
designator U?
Low-Capacitance Array with + / - 15 kV ESD Protection, 4 Channels, -40 to +85 degC, 5-pin SOT (DRL), Green (RoHS & no Sb/Br); Manufacturer: Texas Instruments; PartNumber: TPD4E002DRL2; Breakdown Voltage(Min)(V): 6; IEC 61000-4-2 Air-Gap(+/- kV): 15; IO Capacitance(Typ)(pF): 11; IO Leakage Current(nA): 100; SubFamily: ESD Solution; DatasheetVersion: SLVS615D; PackageVersion: revD, Aug-2007; PackageReference: DRL5; PackageDescription: 5-Pin Plastic Small Outline, Flat Lead 0.5 mm Pitch; Supplier 1: Digi-Key; Supplier Part Number 1: 296-25866-2-ND; Supplier 2: Digi-Key; Supplier Part Number 2: 296-25866-1-ND; Supplier 3: Digi-Key; Supplier Part Number 3: 296-25866-6-ND; Supplier 4: Newark; Supplier Part Number 4: 69R0434; Supplier 5: Mouser; Supplier Part Number 5: 595-TPD4E002DRL2; Eco-Plan: Green (RoHS & no Sb/Br); IEC 61000-4-2 Contact(+/- kV): 15; Mounting Technology: Surface Mount; ComponentLink1Description: Datasheet; ComponentLink1URL: http://www.ti.com/general/docs/lit/getliterature.tsp?genericPartNumber=TPD4E002&fileType=pdf; ComponentLink2Description: URL Link1; ComponentLink2URL: SamplesURL:http://www.ti.com/product/tpd4e002#samples
footprint DRL5_V (SOTFL, 5-Flat Leads, Body 1.2x1.6x0.6mm, Pitch 0.5mm, TI Recommended)
footprint DRL5_N (SOTFL, 5-Flat Leads, Body 1.2x1.6x0.6mm, Pitch 0.5mm, IPC Medium Density)
footprint DRL5_L (SOTFL, 5-Flat Leads, Body 1.2x1.6x0.6mm, Pitch 0.5mm, IPC High Density)
footprint DRL5_M (SOTFL, 5-Flat Leads, Body 1.2x1.6x0.6mm, Pitch 0.5mm, IPC Low Density)
pins: 1 IO1, 2 GND (power), 3 IO2, 4 IO3, 5 IO4

## TPD4E002DRLR
designator U?
Low-Capacitance Array with + / - 15 kV ESD Protection, 4 Channels, -40 to +85 degC, 5-pin SOT (DRL), Green (RoHS & no Sb/Br); Manufacturer: Texas Instruments; PartNumber: TPD4E002DRLR; Breakdown Voltage(Min)(V): 6; IEC 61000-4-2 Air-Gap(+/- kV): 15; IO Capacitance(Typ)(pF): 11; IO Leakage Current(nA): 100; SubFamily: ESD Solution; DatasheetVersion: SLVS615D; PackageVersion: revD, Aug-2007; PackageReference: DRL5; PackageDescription: 5-Pin Plastic Small Outline, Flat Lead 0.5 mm Pitch; Supplier 1: Digi-Key; Supplier Part Number 1: 296-21694-2-ND; Supplier 2: Digi-Key; Supplier Part Number 2: 296-21694-1-ND; Supplier 3: Digi-Key; Supplier Part Number 3: 296-21694-6-ND; Supplier 4: Farnell; Supplier Part Number 4: 1755329RL; Supplier 5: Farnell; Supplier Part Number 5: 1755329; Supplier 6: Newark; Supplier Part Number 6: 34R9156; Supplier 7: Newark; Supplier Part Number 7: 34M0135; Supplier 8: Mouser; Supplier Part Number 8: 595-TPD4E002DRLR; Eco-Plan: Green (RoHS & no Sb/Br); IEC 61000-4-2 Contact(+/- kV): 15; Mounting Technology: Surface Mount; ComponentLink1Description: Datasheet; ComponentLink1URL: http://www.ti.com/general/docs/lit/getliterature.tsp?genericPartNumber=TPD4E002&fileType=pdf; ComponentLink2Description: URL Link1; ComponentLink2URL: SamplesURL:http://www.ti.com/product/tpd4e002#samples
footprint DRL5_V (SOTFL, 5-Flat Leads, Body 1.2x1.6x0.6mm, Pitch 0.5mm, TI Recommended)
footprint DRL5_N (SOTFL, 5-Flat Leads, Body 1.2x1.6x0.6mm, Pitch 0.5mm, IPC Medium Density)
footprint DRL5_L (SOTFL, 5-Flat Leads, Body 1.2x1.6x0.6mm, Pitch 0.5mm, IPC High Density)
footprint DRL5_M (SOTFL, 5-Flat Leads, Body 1.2x1.6x0.6mm, Pitch 0.5mm, IPC Low Density)
pins: 1 IO1, 2 GND (power), 3 IO2, 4 IO3, 5 IO4

## TPD4E002DRLRG4
designator U?
Low-Capacitance Array with + / - 15 kV ESD Protection, 4 Channels, -40 to +85 degC, 5-pin SOT (DRL), Green (RoHS & no Sb/Br); Manufacturer: Texas Instruments; PartNumber: TPD4E002DRLRG4; Breakdown Voltage(Min)(V): 6; IEC 61000-4-2 Air-Gap(+/- kV): 15; IO Capacitance(Typ)(pF): 11; IO Leakage Current(nA): 100; SubFamily: ESD Solution; DatasheetVersion: SLVS615D; PackageVersion: revD, Aug-2007; PackageReference: DRL5; PackageDescription: 5-Pin Plastic Small Outline, Flat Lead 0.5 mm Pitch; Supplier 1: Digi-Key; Supplier Part Number 1: TPD4E002DRLRG4-ND; Supplier 2: Newark; Supplier Part Number 2: 46M1088; Supplier 3: Mouser; Supplier Part Number 3: 595-TPD4E002DRLRG4; Eco-Plan: Green (RoHS & no Sb/Br); IEC 61000-4-2 Contact(+/- kV): 15; Mounting Technology: Surface Mount; ComponentLink1Description: Datasheet; ComponentLink1URL: http://www.ti.com/general/docs/lit/getliterature.tsp?genericPartNumber=TPD4E002&fileType=pdf; ComponentLink2Description: URL Link1; ComponentLink2URL: SamplesURL:http://www.ti.com/product/tpd4e002#samples
footprint DRL5_V (SOTFL, 5-Flat Leads, Body 1.2x1.6x0.6mm, Pitch 0.5mm, TI Recommended)
footprint DRL5_N (SOTFL, 5-Flat Leads, Body 1.2x1.6x0.6mm, Pitch 0.5mm, IPC Medium Density)
footprint DRL5_L (SOTFL, 5-Flat Leads, Body 1.2x1.6x0.6mm, Pitch 0.5mm, IPC High Density)
footprint DRL5_M (SOTFL, 5-Flat Leads, Body 1.2x1.6x0.6mm, Pitch 0.5mm, IPC Low Density)
pins: 1 IO1, 2 GND (power), 3 IO2, 4 IO3, 5 IO4

## TPD4E004DRYR
designator U?
ESD-Protection Array for High-Speed Data Interfaces, 4 Channels, -40 to +85 degC, 6-pin SON (DRY), Green (RoHS & no Sb/Br); Manufacturer: Texas Instruments; PartNumber: TPD4E004DRYR; 1394 / Firewire: TRUE; Breakdown Voltage(Min)(V): 6; IEC 61000-4-2 Air-Gap(+/- kV): 12; IEC 61000-4-2 Contact(+/- kV): 8; IO Capacitance(Typ)(pF): 1.6; IO Leakage Current(nA): 1; SubFamily: ESD Solution; DatasheetVersion: SLVS729A; PackageVersion: revF, Dec-2011; PackageReference: DRY6; PackageDescription: 6-Pin Plastic Small Outline No-Lead, 1 x 1.45 x 0.6 mm Body, 0.5 mm Pitch; Supplier 1: Digi-Key; Supplier Part Number 1: 296-23618-2-ND; Supplier 2: Digi-Key; Supplier Part Number 2: 296-23618-1-ND; Supplier 3: Digi-Key; Supplier Part Number 3: 296-23618-6-ND; Supplier 4: Farnell; Supplier Part Number 4: 1755331; Supplier 5: Newark; Supplier Part Number 5: 85M0177; Supplier 6: Mouser; Supplier Part Number 6: 595-TPD4E004DRYR; Eco-Plan: Green (RoHS & no Sb/Br); Serial ATA / eSATA: TRUE; USB High Speed: TRUE; Mounting Technology: Surface Mount; ComponentLink1Description: Datasheet; ComponentLink1URL: http://www.ti.com/general/docs/lit/getliterature.tsp?genericPartNumber=TPD4E004&fileType=pdf; ComponentLink2Description: URL Link1; ComponentLink2URL: SamplesURL:http://www.ti.com/product/tpd4e004#samples
footprint DRY6 (PSON, 6-Leads, Body 1x1.45mm, Pitch 0.5mm, TI Recommended)
pins: 1 IO1 "ESD-protected channel", 2 IO2 "ESD-protected channel", 3 GND (power) "Ground", 4 IO3 "ESD-protected channel", 5 IO4 "ESD-protected channel", 6 VCC (power) "Power-supply input"

## TPD4E004DRYRG4
designator U?
ESD-Protection Array for High-Speed Data Interfaces, 4 Channels, -40 to +85 degC, 6-pin SON (DRY), Green (RoHS & no Sb/Br); Manufacturer: Texas Instruments; PartNumber: TPD4E004DRYRG4; 1394 / Firewire: TRUE; Breakdown Voltage(Min)(V): 6; IEC 61000-4-2 Air-Gap(+/- kV): 12; IEC 61000-4-2 Contact(+/- kV): 8; IO Capacitance(Typ)(pF): 1.6; IO Leakage Current(nA): 1; SubFamily: ESD Solution; DatasheetVersion: SLVS729A; PackageVersion: revF, Dec-2011; PackageReference: DRY6; PackageDescription: 6-Pin Plastic Small Outline No-Lead, 1 x 1.45 x 0.6 mm Body, 0.5 mm Pitch; Supplier 1: Digi-Key; Supplier Part Number 1: TPD4E004DRYRG4-ND; Supplier 2: Newark; Supplier Part Number 2: 89M2736; Supplier 3: Mouser; Supplier Part Number 3: 595-TPD4E004DRYRG4; Eco-Plan: Green (RoHS & no Sb/Br); Serial ATA / eSATA: TRUE; USB High Speed: TRUE; Mounting Technology: Surface Mount; ComponentLink1Description: Datasheet; ComponentLink1URL: http://www.ti.com/general/docs/lit/getliterature.tsp?genericPartNumber=TPD4E004&fileType=pdf; ComponentLink2Description: URL Link1; ComponentLink2URL: SamplesURL:http://www.ti.com/product/tpd4e004#samples
footprint DRY6 (PSON, 6-Leads, Body 1x1.45mm, Pitch 0.5mm, TI Recommended)
pins: 1 IO1 "ESD-protected channel", 2 IO2 "ESD-protected channel", 3 GND (power) "Ground", 4 IO3 "ESD-protected channel", 5 IO4 "ESD-protected channel", 6 VCC (power) "Power-supply input"

## TPD4EUSB30DQAR
designator U?
ESD Solution for Super-Speed (6 GBPS) USB 3.0 Interface, 4 Channels, -40 to +85 degC, 10-pin SON (DQA), Green (RoHS & no Sb/Br); Manufacturer: Texas Instruments; PartNumber: TPD4EUSB30DQAR; 1394 / Firewire: TRUE; Breakdown Voltage(Min)(V): 8; Differential Capacitance(pF): 0.05; IO Capacitance(Typ)(pF): 0.8; IO Leakage Current(nA): 10; DatasheetVersion: SLVSAC2C; PackageVersion: revB, Sep-2009; PackageReference: DQA10; PackageDescription: 10-Pin Plastic Small Outline No-Lead, 1 x 2.5 x 0.55 mm Body, 0.5 mm Pitch; Supplier 1: Digi-Key; Supplier Part Number 1: 296-28063-2-ND; Supplier 2: Digi-Key; Supplier Part Number 2: 296-28063-1-ND; Supplier 3: Digi-Key; Supplier Part Number 3: 296-28063-6-ND; Supplier 4: Farnell; Supplier Part Number 4: 1863874; Supplier 5: Newark; Supplier Part Number 5: 13T5937; Supplier 6: Mouser; Supplier Part Number 6: 595-TPD4EUSB30DQAR; Eco-Plan: Green (RoHS & no Sb/Br); HDMI: TRUE; IEC 61000-4-2 Air-Gap(+/- kV): 8; IEC 61000-4-2 Contact(+/- kV): 8; Serial ATA / eSATA: TRUE; SubFamily: ESD Solution; USB Full Speed: TRUE; USB High Speed: TRUE; USB Super Speed: TRUE; Mounting Technology: Surface Mount; ComponentLink1Description: Datasheet; ComponentLink1URL: http://www.ti.com/general/docs/lit/getliterature.tsp?genericPartNumber=TPD4EUSB30&fileType=pdf; ComponentLink2Description: URL Link1; ComponentLink2URL: SamplesURL:http://www.ti.com/product/tpd4eusb30#samples
footprint DQA10 (SON, 10-Leads, Body 1x2.5mm, Pitch 0.5mm, TI Recommended)
pins: 1 D1+ "High-speed ESD clamp, provides ESD protection to the high-speed differential data line", 2 D1- "High-speed ESD clamp, provides ESD protection to the high-speed differential data line", 3 GND (power) "Ground", 4 D2+ "High-speed ESD clamp, provides ESD protection to the high-speed differential data line", 5 D2- "High-speed ESD clamp, provides ESD protection to the high-speed differential data line", 6 NC "Not normally connected", 7 NC "Not normally connected", 8 GND (power) "Ground", 9 NC "Not normally connected", 10 NC "Not normally connected"

## TPD4F003DQDR
designator U?
EMI Filter with Integrated ESD Protection, 4 Channels, -40 to +85 degC, 8-pin WSON (DQD), Green (RoHS & no Sb/Br); Manufacturer: Texas Instruments; PartNumber: TPD4F003DQDR; Breakdown Voltage(Min)(V): 6; Ctotal(Typ)(pF): 17; IEC 61000-4-2 Air-Gap(Typ)(+/- kV): 20; IEC 61000-4-2 Contact(Typ)(+/- kV): 12; SubFamily: EMI Solution; DatasheetVersion: SLLS907D; PackageVersion: revC, Dec-2011; PackageReference: DQD8-1200X400TP; PackageDescription: 8-Pin Plastic Small Outline No-Lead, 1.35 x 1.7 x 0.8 mm Body, 0.4 mm Pitch, Exposed Pad; Supplier 1: Digi-Key; Supplier Part Number 1: 296-25817-2-ND; Supplier 2: Digi-Key; Supplier Part Number 2: 296-25817-1-ND; Supplier 3: Digi-Key; Supplier Part Number 3: 296-25817-6-ND; Supplier 4: Farnell; Supplier Part Number 4: 1815758RL; Supplier 5: Farnell; Supplier Part Number 5: 1815758; Supplier 6: Newark; Supplier Part Number 6: 65R4599; Supplier 7: Mouser; Supplier Part Number 7: 595-TPD4F003DQDR; Eco-Plan: Green (RoHS & no Sb/Br); Mounting Technology: Surface Mount; ComponentLink1Description: Datasheet; ComponentLink1URL: http://www.ti.com/general/docs/lit/getliterature.tsp?genericPartNumber=TPD4F003&fileType=pdf; ComponentLink2Description: URL Link1; ComponentLink2URL: SamplesURL:http://www.ti.com/product/tpd4f003#samples
footprint DQD8-1200X400TP (SON, 8-Leads, Body 1.35x1.7mm, Pitch 0.4mm, Thermal Pad 1.2x0.4mm, TI Recommended)
pins: 1 CH1_IN, 2 CH2_IN, 3 CH3_IN, 4 CH4_IN, 5 CH4_OUT, 6 CH3_OUT, 7 CH2_OUT, 8 CH1_OUT, 9 EP (power)

## TPD4F202YFUR
designator U?
EMI Filter with ESD Protection for LCD Display, 4 Channels, -40 to +85 degC, 10-pin DSBGA (YFU), Green (RoHS & no Sb/Br); Manufacturer: Texas Instruments; PartNumber: TPD4F202YFUR; Breakdown Voltage(Min)(V): 6; Ctotal(Typ)(pF): 30; IEC 61000-4-2 Air-Gap(Typ)(+/- kV): 25; SubFamily: EMI Solution; DatasheetVersion: SLLS800; PackageVersion: revC, Mar-2010; PackageReference: YFU10; PackageDescription: 10-Ball Staggered Ball Grid Array, 1.56 x 1.05 mm Body, 0.693/0.4 mm Pitch, Pb-Free; Supplier 1: Digi-Key; Supplier Part Number 1: 296-27637-2-ND; Supplier 2: Digi-Key; Supplier Part Number 2: 296-27637-1-ND; Supplier 3: Digi-Key; Supplier Part Number 3: 296-27637-6-ND; Supplier 4: Mouser; Supplier Part Number 4: 595-TPD4F202YFUR; Eco-Plan: Green (RoHS & no Sb/Br); IEC 61000-4-2 Contact(Typ)(+/- kV): 25; Mounting Technology: Surface Mount; ComponentLink1Description: Datasheet; ComponentLink1URL: http://www.ti.com/general/docs/lit/getliterature.tsp?genericPartNumber=TPD4F202&fileType=pdf; ComponentLink2Description: URL Link1; ComponentLink2URL: SamplesURL:http://www.ti.com/product/tpd4f202#samples
footprint YFU10 (BGA, Staggered, 10-Leads, Body 1.56x1.05mm, Pitch 0.693/0.4 mm)
pins: A1 CH1_IN, A3 CH1_OUT, B2 GND (power), C1 CH2_IN, C3  CH2_OUT, D1 CH3_IN, D3 CH3_OUT, E2 GND (power), F1 CH4_IN, F3 CH4_OUT

## TPD4S009DBVR
designator U?
ESD Solution for High-Speed Differential Interface, 4 Channels, -40 to +85 degC, 6-pin SOT-32 (DBV), Green (RoHS & no Sb/Br); Manufacturer: Texas Instruments; PartNumber: TPD4S009DBVR; Breakdown Voltage(Min)(V): 9; Differential Capacitance(pF): 0.05; IEC 61000-4-2 Contact(+/- kV): 8; IO Capacitance(Typ)(pF): 0.8; IO Leakage Current(nA): 10; DatasheetVersion: SLVS817E; PackageVersion: revK, Mar-2006; PackageReference: DBV6; PackageDescription: 6-Pin Plastic Small-Outline Package, 2.9 x 1.6 mm Body, 0.95 mm Pitch, 2.8 mm Lead Span; Supplier 1: Digi-Key; Supplier Part Number 1: 296-23749-2-ND; Supplier 2: Digi-Key; Supplier Part Number 2: 296-23749-1-ND; Supplier 3: Digi-Key; Supplier Part Number 3: 296-23749-6-ND; Supplier 4: Farnell; Supplier Part Number 4: 1855143; Supplier 5: Farnell; Supplier Part Number 5: 1855143RL; Supplier 6: Newark; Supplier Part Number 6: 33R2191; Supplier 7: Newark; Supplier Part Number 7: 03P5148; Supplier 8: Mouser; Supplier Part Number 8: 595-TPD4S009DBVR; Eco-Plan: Green (RoHS & no Sb/Br); IEC 61000-4-2 Air-Gap(+/- kV): 9; SubFamily: ESD Solution; Mounting Technology: Surface Mount; Code_JEDEC: MO-178-AB*; ComponentLink1Description: Datasheet; ComponentLink1URL: http://www.ti.com/general/docs/lit/getliterature.tsp?genericPartNumber=TPD4S009&fileType=pdf; ComponentLink2Description: URL Link1; ComponentLink2URL: SamplesURL:http://www.ti.com/product/tpd4s009#samples
footprint DBV6_N (SOT23, 6-Leads, Body 2.9x1.6mm, Pitch 0.95mm, Lead Span 2.8mm, IPC Medium Density)
footprint DBV6_L (SOT23, 6-Leads, Body 2.9x1.6mm, Pitch 0.95mm, Lead Span 2.8mm, IPC High Density)
footprint DBV6_M (SOT23, 6-Leads, Body 2.9x1.6mm, Pitch 0.95mm, Lead Span 2.8mm, IPC Low Density)
pins: 1 D1+ "High-speed ESD clamp provides ESD protection to the high-speed differential data line.", 2 GND (power) "Ground", 3 D2+ "High-speed ESD clamp provides ESD protection to the high-speed differential data line.", 4 D2- "High-speed ESD clamp provides ESD protection to the high-speed differential data line.", 5 VCC (power) "Supply", 6 D1- "High-speed ESD clamp provides ESD protection to the high-speed differential data line."

## TPD4S009DBVRG4
designator U?
ESD Solution for High-Speed Differential Interface, 4 Channels, -40 to +85 degC, 6-pin SOT-23 (DBV), Green (RoHS & no Sb/Br); Manufacturer: Texas Instruments; PartNumber: TPD4S009DBVRG4; Breakdown Voltage(Min)(V): 9; Differential Capacitance(pF): 0.05; IEC 61000-4-2 Contact(+/- kV): 8; IO Capacitance(Typ)(pF): 0.8; IO Leakage Current(nA): 10; DatasheetVersion: SLVS817E; PackageVersion: revK, Mar-2006; PackageReference: DBV6; PackageDescription: 6-Pin Plastic Small-Outline Package, 2.9 x 1.6 mm Body, 0.95 mm Pitch, 2.8 mm Lead Span; Supplier 1: Digi-Key; Supplier Part Number 1: TPD4S009DBVRG4-ND; Supplier 2: Newark; Supplier Part Number 2: 12P7929; Supplier 3: Mouser; Supplier Part Number 3: 595-TPD4S009DBVRG4; Eco-Plan: Green (RoHS & no Sb/Br); IEC 61000-4-2 Air-Gap(+/- kV): 9; SubFamily: ESD Solution; Mounting Technology: Surface Mount; Code_JEDEC: MO-178-AB*; ComponentLink1Description: Datasheet; ComponentLink1URL: http://www.ti.com/general/docs/lit/getliterature.tsp?genericPartNumber=TPD4S009&fileType=pdf; ComponentLink2Description: URL Link1; ComponentLink2URL: SamplesURL:http://www.ti.com/product/tpd4s009#samples
footprint DBV6_N (SOT23, 6-Leads, Body 2.9x1.6mm, Pitch 0.95mm, Lead Span 2.8mm, IPC Medium Density)
footprint DBV6_L (SOT23, 6-Leads, Body 2.9x1.6mm, Pitch 0.95mm, Lead Span 2.8mm, IPC High Density)
footprint DBV6_M (SOT23, 6-Leads, Body 2.9x1.6mm, Pitch 0.95mm, Lead Span 2.8mm, IPC Low Density)
pins: 1 D1+ "High-speed ESD clamp provides ESD protection to the high-speed differential data line.", 2 GND (power) "Ground", 3 D2+ "High-speed ESD clamp provides ESD protection to the high-speed differential data line.", 4 D2- "High-speed ESD clamp provides ESD protection to the high-speed differential data line.", 5 VCC (power) "Supply", 6 D1- "High-speed ESD clamp provides ESD protection to the high-speed differential data line."

## TPD4S009DCKR
designator U?
ESD Solution for High-Speed Differential Interface, 4 Channels, -40 to +85 degC, 6-pin SC70 (DCK), Green (RoHS & no Sb/Br); Manufacturer: Texas Instruments; PartNumber: TPD4S009DCKR; Breakdown Voltage(Min)(V): 9; Differential Capacitance(pF): 0.05; IEC 61000-4-2 Contact(+/- kV): 8; IO Capacitance(Typ)(pF): 0.8; IO Leakage Current(nA): 10; DatasheetVersion: SLVS817E; PackageVersion: revG, Jan-2007; PackageReference: DCK6; PackageDescription: 6-Pin Plastic Small-Outline Package, 2 x 1.3 mm Body, 0.65 mm Pitch, 2.1 mm Lead Span; Supplier 1: Digi-Key; Supplier Part Number 1: 296-24471-2-ND; Supplier 2: Digi-Key; Supplier Part Number 2: 296-24471-1-ND; Supplier 3: Digi-Key; Supplier Part Number 3: 296-24471-6-ND; Supplier 4: Mouser; Supplier Part Number 4: 595-TPD4S009DCKR; Eco-Plan: Green (RoHS & no Sb/Br); IEC 61000-4-2 Air-Gap(+/- kV): 9; SubFamily: ESD Solution; Mounting Technology: Surface Mount; Code_JEDEC: MO-203-AB; ComponentLink1Description: Datasheet; ComponentLink1URL: http://www.ti.com/general/docs/lit/getliterature.tsp?genericPartNumber=TPD4S009&fileType=pdf; ComponentLink2Description: URL Link1; ComponentLink2URL: SamplesURL:http://www.ti.com/product/tpd4s009#samples
footprint DCK6_N (SOT23, 6-Leads, Body 2x1.3mm, Pitch 0.65mm, Lead Span 2.1mm, IPC Medium Density)
footprint DCK6_L (SOT23, 6-Leads, Body 2x1.3mm, Pitch 0.65mm, Lead Span 2.1mm, IPC High Density)
footprint DCK6_M (SOT23, 6-Leads, Body 2x1.3mm, Pitch 0.65mm, Lead Span 2.1mm, IPC Low Density)
pins: 1 D1+ "High-speed ESD clamp provides ESD protection to the high-speed differential data lines.", 2 GND (power) "Ground", 3 D2+ "High-speed ESD clamp provides ESD protection to the high-speed differential data lines.", 4 D2- "High-speed ESD clamp provides ESD protection to the high-speed differential data lines.", 5 VCC (power) "Supply", 6 D1- "High-speed ESD clamp provides ESD protection to the high-speed differential data lines."

## TPD4S009DCKRG4
designator U?
ESD Solution for High-Speed Differential Interface, 4 Channels, -40 to +85 degC, 6-pin SC70 (DCK), Green (RoHS & no Sb/Br); Manufacturer: Texas Instruments; PartNumber: TPD4S009DCKRG4; Breakdown Voltage(Min)(V): 9; Differential Capacitance(pF): 0.05; IEC 61000-4-2 Contact(+/- kV): 8; IO Capacitance(Typ)(pF): 0.8; IO Leakage Current(nA): 10; DatasheetVersion: SLVS817E; PackageVersion: revG, Jan-2007; PackageReference: DCK6; PackageDescription: 6-Pin Plastic Small-Outline Package, 2 x 1.3 mm Body, 0.65 mm Pitch, 2.1 mm Lead Span; Supplier 1: Digi-Key; Supplier Part Number 1: TPD4S009DCKRG4-ND; Supplier 2: Mouser; Supplier Part Number 2: 595-TPD4S009DCKRG4; Eco-Plan: Green (RoHS & no Sb/Br); IEC 61000-4-2 Air-Gap(+/- kV): 9; SubFamily: ESD Solution; Mounting Technology: Surface Mount; Code_JEDEC: MO-203-AB; ComponentLink1Description: Datasheet; ComponentLink1URL: http://www.ti.com/general/docs/lit/getliterature.tsp?genericPartNumber=TPD4S009&fileType=pdf; ComponentLink2Description: URL Link1; ComponentLink2URL: SamplesURL:http://www.ti.com/product/tpd4s009#samples
footprint DCK6_N (SOT23, 6-Leads, Body 2x1.3mm, Pitch 0.65mm, Lead Span 2.1mm, IPC Medium Density)
footprint DCK6_L (SOT23, 6-Leads, Body 2x1.3mm, Pitch 0.65mm, Lead Span 2.1mm, IPC High Density)
footprint DCK6_M (SOT23, 6-Leads, Body 2x1.3mm, Pitch 0.65mm, Lead Span 2.1mm, IPC Low Density)
pins: 1 D1+ "High-speed ESD clamp provides ESD protection to the high-speed differential data lines.", 2 GND (power) "Ground", 3 D2+ "High-speed ESD clamp provides ESD protection to the high-speed differential data lines.", 4 D2- "High-speed ESD clamp provides ESD protection to the high-speed differential data lines.", 5 VCC (power) "Supply", 6 D1- "High-speed ESD clamp provides ESD protection to the high-speed differential data lines."

## TPD4S009DGSR
designator U?
ESD Solution for High-Speed Differential Interface, 4 Channels, -40 to +85 degC, 10-pin MSOP (DGS), Green (RoHS & no Sb/Br); Manufacturer: Texas Instruments; PartNumber: TPD4S009DGSR; Breakdown Voltage(Min)(V): 9; Differential Capacitance(pF): 0.05; IEC 61000-4-2 Contact(+/- kV): 8; IO Capacitance(Typ)(pF): 0.8; IO Leakage Current(nA): 10; DatasheetVersion: SLVS817E; PackageVersion: revC, Feb-2004; PackageReference: DGS10; PackageDescription: 10-Pin Thin Shrink Small Outline Package 0.5 mm Pitch; Supplier 1: Digi-Key; Supplier Part Number 1: 296-24538-2-ND; Supplier 2: Digi-Key; Supplier Part Number 2: 296-24538-1-ND; Supplier 3: Digi-Key; Supplier Part Number 3: 296-24538-6-ND; Supplier 4: Newark; Supplier Part Number 4: 25R0087; Supplier 5: Mouser; Supplier Part Number 5: 595-TPD4S009DGSR; Eco-Plan: Green (RoHS & no Sb/Br); IEC 61000-4-2 Air-Gap(+/- kV): 9; SubFamily: ESD Solution; Mounting Technology: Surface Mount; Code_JEDEC: MO-187-BA; ComponentLink1Description: Datasheet; ComponentLink1URL: http://www.ti.com/general/docs/lit/getliterature.tsp?genericPartNumber=TPD4S009&fileType=pdf; ComponentLink2Description: URL Link1; ComponentLink2URL: SamplesURL:http://www.ti.com/product/tpd4s009#samples
footprint DGS10_N (TSSOP, 10-Leads, Body 3x3mm, Pitch 0.5mm, IPC Medium Density)
footprint DGS10_L (TSSOP, 10-Leads, Body 3x3mm, Pitch 0.5mm, IPC High Density)
footprint DGS10_M (TSSOP, 10-Leads, Body 3x3mm, Pitch 0.5mm, IPC Low Density)
pins: 1 D1+ "High-speed ESD clamp provides ESD protection to the high-speed differential data lines.", 2 D1- "High-speed ESD clamp provides ESD protection to the high-speed differential data lines.", 3 GND (power) "Ground", 4 D2+ "High-speed ESD clamp provides ESD protection to the high-speed differential data lines.", 5 D2- "High-speed ESD clamp provides ESD protection to the high-speed differential data lines.", 6 NC "Not internally connected", 7 NC "Not internally connected", 8 VCC (power) "Supply", 9 NC "Not internally connected", 10 NC "Not internally connected"